# EAGLE library part POLOLU-MAX14870 (library dotson)
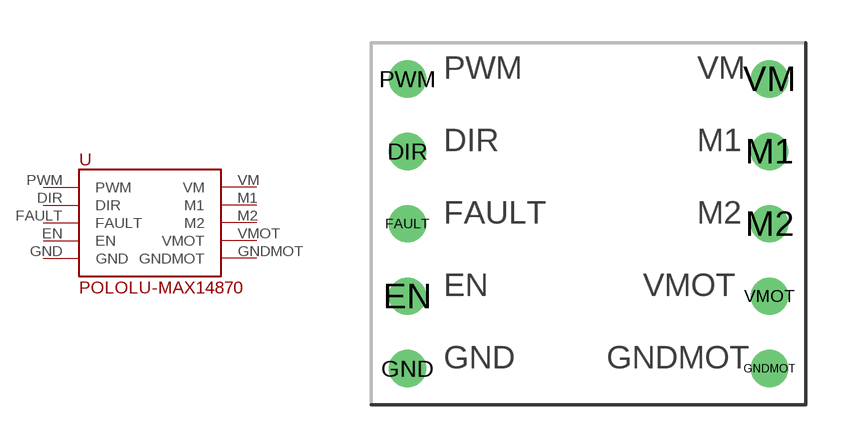
[diagram p1: symbol with the pads of POLOLU-MAX14870; footprint POLOLU-MAX14870]

Designator prefix -

## POLOLU-MAX14870  [POLOLU-MAX14870]
DIR  DIR
EN  EN
FAULT  FAULT
GND  GND
GNDMOT  GNDMOT
M1  M1
M2  M2
PWM  PWM
VM  VM
VMOT  VMOT

## Footprint POLOLU-MAX14870 (pad centres in mm)
drill 0.8: DIR 1.27,8.89; EN 1.27,3.81; FAULT 1.27,6.35; GND 1.27,1.27; GNDMOT 13.97,1.27; M1 13.97,8.89; M2 13.97,6.35; PWM 1.27,11.43; VM 13.97,11.43; VMOT 13.97,3.81